# EAGLE library part TES3-XX2X (library traco_martin)
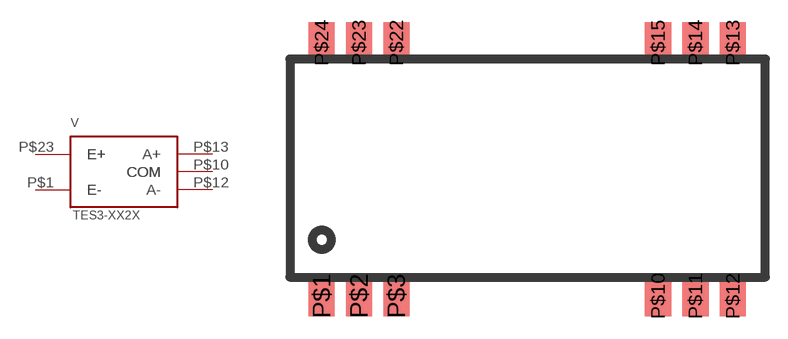
[diagram p0: symbol with the pads of TES3; footprint TES3]

Designator prefix V

## TES3-XX2X  [TES3]
P$1  E-  in
P$2  E-  in
P$10  COM  out
P$12  A-  out
P$13  A+  out
P$15  COM  out
P$23  E+  in
P$24  E+  in

## Footprint TES3 (pad centres in mm)
smd 1.778 x 2.794: P$1 -13.97,-8.89; P$2 -11.43,-8.89; P$3 -8.89,-8.89; P$10 8.89,-8.89; P$11 11.43,-8.89; P$12 13.97,-8.89; P$13 13.97,8.306; P$14 11.43,8.306; P$15 8.89,8.306; P$22 -8.89,8.306; P$23 -11.43,8.306; P$24 -13.97,8.306